# Altium schematic symbol library AT24C512C-SSHM-T.SchLib: 1 symbol
Pins are listed as number, name and electrical type; pins without a type are passive.

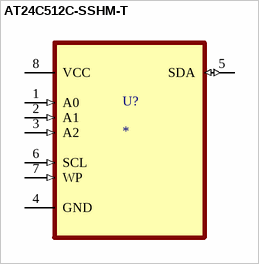
[diagram p0: symbol AT24C512C-SSHM-T]

## AT24C512C-SSHM-T
designator U?
EEPROM Memory IC 512Kb (64K x 8) IÂ²C 400 kHz 900 ns 8-SOIC; MF: Microchip; MP: AT24C512C-SSHM-T; SnapEDA_Link: https://www.snapeda.com/parts/AT24C512C-SSHM-T/Microchip/view-part/?ref=snap; Package: SO-8 Microchip; Value: *; Check_prices: https://www.snapeda.com/parts/AT24C512C-SSHM-T/Microchip/view-part/?ref=eda
footprint SOIC127P600X175-8N
pins: 1 A0 (in), 2 A1 (in), 3 A2 (in), 4 GND, 5 SDA (io), 6 SCL (in), 7 WP (in), 8 VCC (power)